# Altium schematic symbol library 2N2222.SchLib: 1 symbol
Pins are listed as number, name and electrical type; pins without a type are passive.

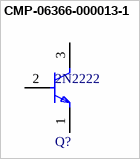
[diagram p0: symbol CMP-06366-000013-1]

## CMP-06366-000013-1
designator Q?, comment 2N2222
TRANS NPN 50V 0.8A TO218
footprint FP-JAN2N2222A-MFG
pins: 1 E, 2 B, 3 C